# EAGLE library part CATALEX-MICROSD-BREAKOUT (library Modules)
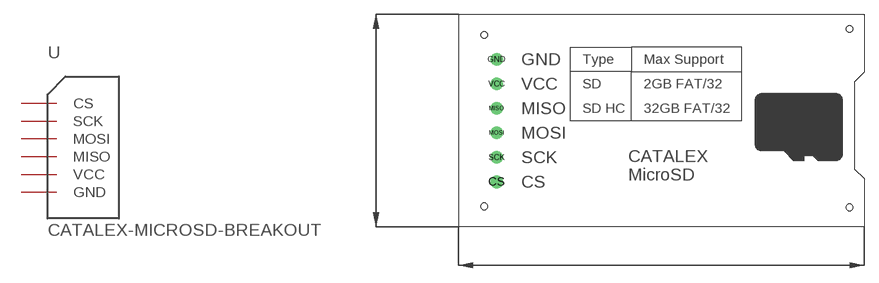
[diagram p0: symbol with the pads of CATALEX-MICROSD-BREAKOUT; footprint CATALEX-MICROSD-BREAKOUT]

Designator prefix -

## CATALEX-MICROSD-BREAKOUT  [CATALEX-MICROSD-BREAKOUT]
CS  CS
GND  GND
MISO  MISO
MOSI  MOSI
SCK  SCK
VCC  VCC

## Footprint CATALEX-MICROSD-BREAKOUT (pad centres in mm)
drill 0.8: CS -2.54,-6.35; GND -2.54,6.35; MISO -2.54,1.27; MOSI -2.54,-1.27; SCK -2.54,-3.81; VCC -2.54,3.81
hole 0.7 at -3.81,8.89
hole 0.7 at -3.81,-8.89
hole 0.7 at 34,-9
hole 0.7 at 34,9.5